# EAGLE library part 687128182122 (library Eagle_FPC_CONNECTOR_AND_FFC_CAB (rev18c))
CONFPCI - 0.5 MM PITCH HORIZONTAL DUAL CONTACT, BACK FLIP ACTUATOR=>Code : ConFPC-687128182122 Characteristics INSULATOR: LCP FLAMABILITY RATING: UL94-V0 COLOUR: IVORY CONTACT MATERIAL: PHOSPHOR BRONZE CONTACT PLATING: 80 μ’’ MAT TIN OVER 50 μ’’ NICKEL CONTACT TYPE: STAMPED TAB MATERIAL: BRASS TAB PLATING: 80 μ’’ MAT TIN OVER 50 μ’’ NICKEL TAB TYPE: STAMPED ACTUATOR MATERIAL: PA9T ACTUATOR COLOUR: BLACK QUALITY CLASS: 20 MATING CYCLES PITCH: 0.50 MM PACKAGING:TAPE AND REEL COMPLIANCE: ROHS AND HALOGEN FREE OPERATING TEMPERATURE: -40°C UP TO +105°C ELECTRICAL CURRENT RATING: 0.5A WORKING VOLTAGE: 50 VAC WITHSTANDING VOLTAGE: 0.25 KVAC/min CONTATC RESISTANCE: 30 mOHM INSULATION RESISTANCE: >500 MΩ <http://katalog.we-online.de/media/images/v2/Family_WR-FPC_687186182122.jpg> Details see: http://katalog.we-online.de/en/em/FPC_0_5_SMT_ZIF_HORIZONTAL_DUAL_CONTACT_BACK_LOCKING_6871XX182122 2015 (C) Wurth Elektronik
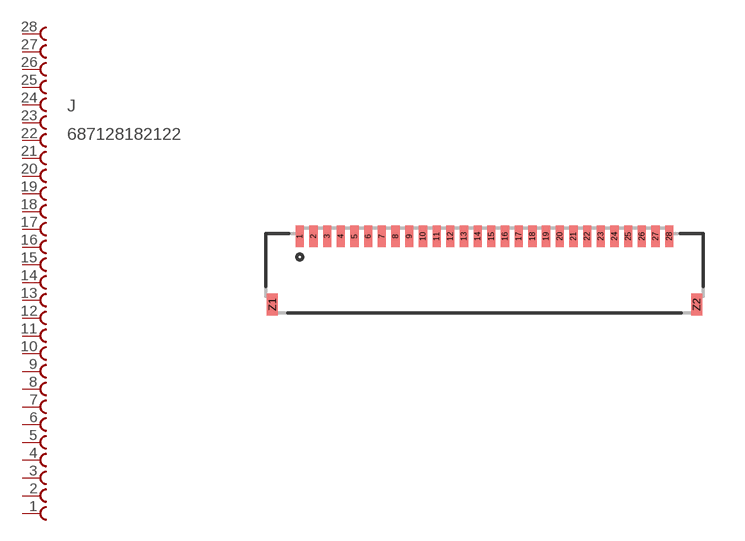
[diagram p139: symbol with the pads of 687128182122; footprint 687128182122]

Designator prefix J

## 687128182122  [687128182122]
1  28  pas
2  27  pas
3  26  pas
4  25  pas
5  24  pas
6  23  pas
7  22  pas
8  21  pas
9  20  pas
10  19  pas
11  18  pas
12  17  pas
13  16  pas
14  15  pas
15  14  pas
16  13  pas
17  12  pas
18  11  pas
19  10  pas
20  9  pas
21  8  pas
22  7  pas
23  6  pas
24  5  pas
25  4  pas
26  3  pas
27  2  pas
28  1  pas

## Footprint 687128182122 (pad centres in mm)
smd 0.3 x 0.8: 1 -6.75,1.25; 2 -6.25,1.25; 3 -5.75,1.25; 4 -5.25,1.25; 5 -4.75,1.25; 6 -4.25,1.25; 7 -3.75,1.25; 8 -3.25,1.25; 9 -2.75,1.25; 10 -2.25,1.25; 11 -1.75,1.25; 12 -1.25,1.25; 13 -0.75,1.25; 14 -0.25,1.25; 15 0.25,1.25; 16 0.75,1.25; 17 1.25,1.25; 18 1.75,1.25; 19 2.25,1.25; 20 2.75,1.25; 21 3.25,1.25; 22 3.75,1.25; 23 4.25,1.25; 24 4.75,1.25; 25 5.25,1.25; 26 5.75,1.25; 27 6.25,1.25; 28 6.75,1.25
smd 0.4 x 0.8: Z1 -7.75,-1.25; Z2 7.75,-1.25